# Altium footprint library TO-220(bend_rad).PcbLib: 1 footprints
Each footprint in its own frame and in the unit in brackets; x right, y up, seen from the top. Pads: shape width x height; smd on the part's side, far side on the other; paste and mask are expansions set on the pad; w line width, h text height; cw(c..) or ccw(c..) is an arc to the next point about the centre after c.
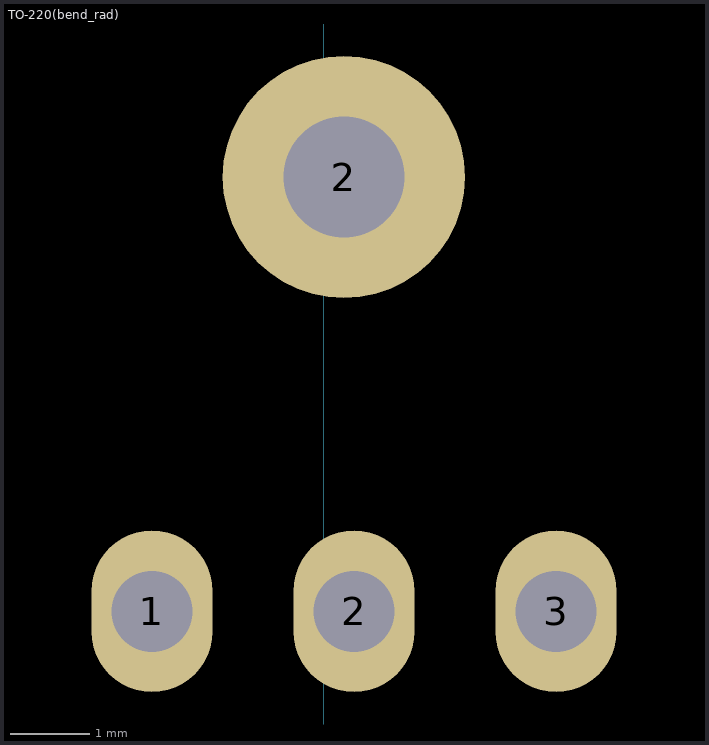
[diagram p0: the footprint, top view; thin cyan lines are the x and y axes]

## TO-220(bend_rad) [mil]
pads (4):
  oval 60x80 / inner oval 75x90 / far side oval 80x100 hole 40: 1(-85,-400) 2(15,-400) 3(115,-400)
  round 120 hole 60: 2(10,-185)
3D body "TO220 (bend).STEP": height 161.27, standoff -773, extent -181.25,-481.1 211.25,-289.25
3D body "Радиатор.STEP": height 994, standoff -147.73, extent -285,-479.53 305.55,-50